# Altium footprint library Dr_lib .PcbLib: 38 footprints (part 1 of 3)
Each footprint in its own frame and in the unit in brackets; x right, y up, seen from the top. Pads: shape width x height; smd on the part's side, far side on the other; paste and mask are expansions set on the pad; w line width, h text height; cw(c..) or ccw(c..) is an arc to the next point about the centre after c.
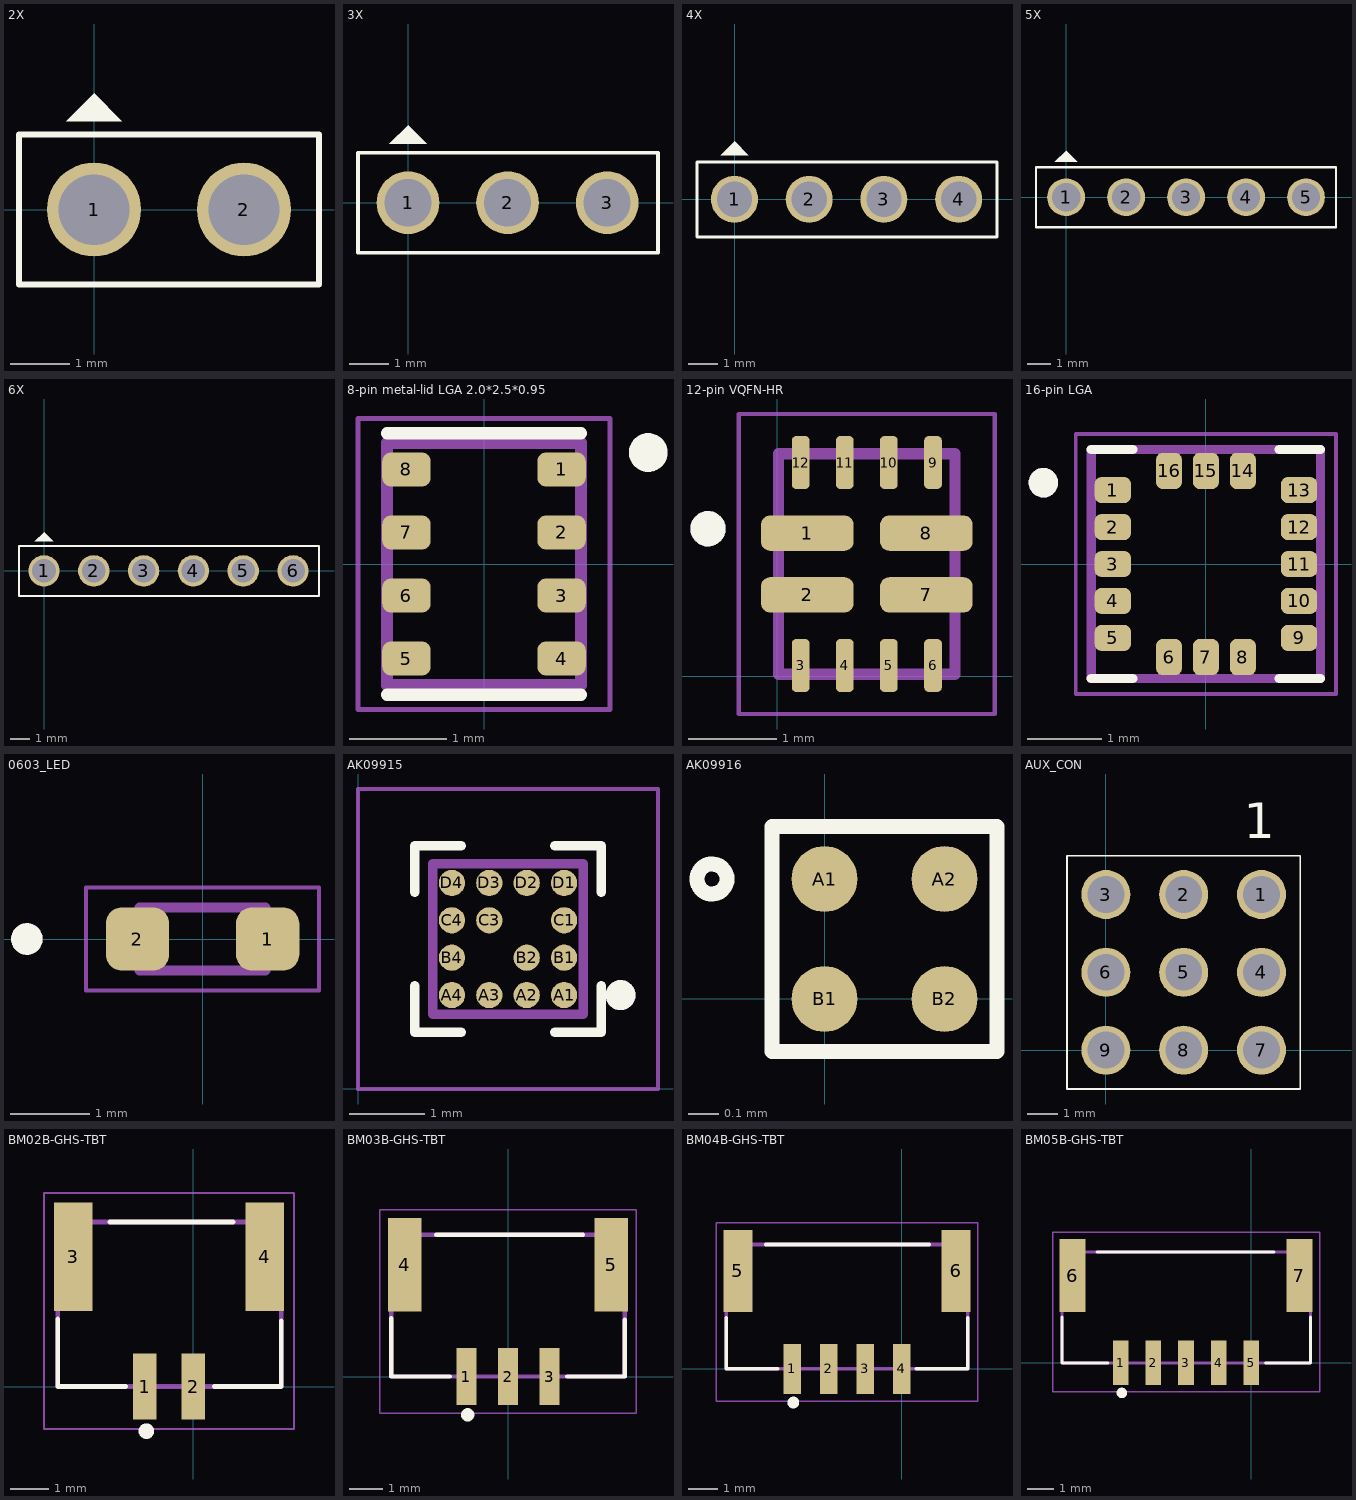
[diagram p0: the footprints below, top view; thin cyan lines are the x and y axes]

## 2X [mm]
pads (2):
  round 1.6 hole 1.2: 1(0,0) 2(2.55,0)
Top Overlay:
  region: 0,1.975 0.475,1.5 -0.475,1.5
  lines w0.1: -1.275,-1.275 -1.275,1.275 3.825,1.275 3.825,-1.275 -1.275,-1.275

## 3X [mm]
pads (3):
  round 1.6 hole 1.2: 1(0,0) 2(2.54,0) 3(5.08,0)
Top Overlay:
  region: 0,1.975 0.475,1.5 -0.475,1.5
  lines w0.1: -1.275,-1.275 6.375,-1.275 6.375,1.275 -1.275,1.275 -1.275,-1.275

## 4X [mm]
pads (4):
  round 1.6 hole 1.2: 1(0,0) 2(2.54,0) 3(5.08,0) 4(7.62,0)
Top Overlay:
  region: 0,1.975 0.475,1.5 -0.475,1.5
  lines w0.1: -1.275,-1.275 8.925,-1.275 8.925,1.275 -1.275,1.275 -1.275,-1.275

## 5X [mm]
pads (5):
  round 1.6 hole 1.2: 1(0,0) 2(2.54,0) 3(5.08,0) 4(7.62,0) 5(10.16,0)
Top Overlay:
  region: 0,1.975 0.475,1.5 -0.475,1.5
  lines w0.1: -1.275,-1.275 -1.275,1.275 11.43,1.275 11.43,-1.275 -1.275,-1.275

## 6X [mm]
pads (6):
  round 1.6 hole 1.2: 1(0,0) 2(2.54,0) 3(5.08,0) 4(7.62,0) 5(10.16,0) 6(12.7,0)
Top Overlay:
  region: 0,1.975 0.475,1.5 -0.475,1.5
  lines w0.1: -1.275,-1.275 14.025,-1.275 14.025,1.275 -1.275,1.275 -1.275,-1.275

## 8-pin metal-lid LGA 2.0*2.5*0.95 [mm]
pads (8):
  rrect50% 0.5x0.35 smd mask+0.05: 1(0.8,0.975) 2(0.8,0.325) 3(0.8,-0.325) 4(0.8,-0.975) 5(-0.8,-0.975) 6(-0.8,-0.325) 7(-0.8,0.325) 8(-0.8,0.975)
Top Overlay:
  circle w0.2: c1.695,1.15 r0.1
  lines w0.127: -1,-1.35 1,-1.35 ; -1,1.35 1,1.35
Mechanical 13:
  lines w0.127: -1,-1.25 1,-1.25 1,1.25 -1,1.25 -1,-1.25
Mechanical 15:
  lines w0.05: -1.3,-1.5 -1.3,1.5 1.3,1.5 1.3,-1.5 -1.3,-1.5
3D body "BMP280--3DModel-STEP-1.STEP": height 1, standoff 0, extent -1,-1.25 1,1.25

## 12-pin VQFN-HR [mm]
pads (12):
  rrect50% 1.05x0.4 smd mask+0: 1(0.341,1.62) 2(0.341,0.92) 7(1.691,0.92) 8(1.691,1.62)
  rrect50% 0.2x0.6 smd mask+0: 3(0.266,0.12) 4(0.766,0.12) 5(1.266,0.12) 6(1.766,0.12) 9(1.766,2.42) 10(1.266,2.42) 11(0.766,2.42) 12(0.266,2.42)
Top Overlay:
  circle w0.2: c-0.784,1.67 r0.1
Top Solder:
  region: 0.916,1.37 -0.234,1.37 -0.234,1.87 0.916,1.87
  region: 2.266,1.37 1.116,1.37 1.116,1.87 2.266,1.87
  region: 0.916,0.67 -0.234,0.67 -0.234,1.17 0.916,1.17
  region: 0.916,2.07 0.616,2.07 0.616,2.77 0.916,2.77
  region: 1.416,2.07 1.116,2.07 1.116,2.77 1.416,2.77
  region: 0.916,-0.23 0.616,-0.23 0.616,0.47 0.916,0.47
  region: 1.416,-0.23 1.116,-0.23 1.116,0.47 1.416,0.47
  region: 0.416,-0.23 0.116,-0.23 0.116,0.47 0.416,0.47
  region: 1.916,-0.23 1.616,-0.23 1.616,0.47 1.916,0.47
  region: 0.416,2.07 0.116,2.07 0.116,2.77 0.416,2.77
  region: 1.916,2.07 1.616,2.07 1.616,2.77 1.916,2.77
  region: 2.266,0.67 1.116,0.67 1.116,1.17 2.266,1.17
Mechanical 13:
  circle w0.2: c-0.784,1.67 r0.1
  lines w0.127: 0.016,0.02 0.016,2.52 2.016,2.52 2.016,0.02 0.016,0.02
Mechanical 15:
  lines w0.05: -0.434,-0.43 -0.434,2.97 2.466,2.97 2.466,-0.43 -0.434,-0.43
3D body "step_temp.STEP": height 1, standoff 0, extent 0.016,0.02 2.016,2.52

## 16-pin LGA [mm]
pads (16):
  rrect50% 0.49x0.35 smd mask+0.05: 1(-1.26,1) 2(-1.26,0.5) 3(-1.26,0) 4(-1.26,-0.5) 5(-1.26,-1) 9(1.26,-1) 10(1.26,-0.5) 11(1.26,0) 12(1.26,0.5) 13(1.26,1)
  rrect50% 0.35x0.49 smd mask+0.05: 6(-0.5,-1.26) 7(0,-1.26) 8(0.5,-1.26) 14(0.5,1.26) 15(0,1.26) 16(-0.5,1.26)
Top Overlay:
  circle w0.2: c-2.2,1.1 r0.1
  lines w0.127: -1.55,-1.55 -0.99,-1.55 ; -1.55,1.55 -0.99,1.55 ; 0.99,-1.55 1.55,-1.55 ; 0.99,1.55 1.55,1.55
Mechanical 13:
  circle w0.2: c-2.2,1.1 r0.1
  lines w0.127: -1.55,-1.55 1.55,-1.55 1.55,1.55 -1.55,1.55 -1.55,-1.55
Mechanical 15:
  lines w0.05: -1.76,-1.76 1.76,-1.76 1.76,1.76 -1.76,1.76 -1.76,-1.76
3D body "step_temp.STEP": height 0.8, standoff 0, extent -1.5,-1.5 1.5,1.5

## 0603_LED [mm]
pads (2):
  rrect50% 0.8x0.8 smd mask+0.05: 1(0.825,0) 2(-0.825,0)
Top Overlay:
  circle w0.2: c-2.225,0 r0.1
Mechanical 13:
  circle w0.2: c-2.225,0 r0.1
  lines w0.127: -0.8,-0.4 0.8,-0.4 0.8,0.4 -0.8,0.4 -0.8,-0.4
Mechanical 15:
  lines w0.05: -1.475,-0.65 -1.475,0.65 1.475,0.65 1.475,-0.65 -1.475,-0.65
3D body "step_temp.STEP": height 1.1, standoff 0, extent -0.8,-0.4 0.8,0.4

## AK09915 [mm]
pads (14):
  round 0.35 smd: A1(2.75,1.25) A2(2.25,1.25) A3(1.75,1.25) A4(1.25,1.25) B1(2.75,1.75) B2(2.25,1.75) B4(1.25,1.75) C1(2.75,2.25) C3(1.75,2.25) C4(1.25,2.25) D1(2.75,2.75) D2(2.25,2.75) D3(1.75,2.75) D4(1.25,2.75)
Top Overlay:
  circle w0.2: c3.505,1.25 r0.1
  lines w0.127: 0.755,1.378 0.755,0.755 1.377,0.755 ; 0.755,2.623 0.755,3.245 1.377,3.245 ; 2.622,0.755 3.245,0.755 3.245,1.378 ; 2.622,3.245 3.245,3.245 3.245,2.623
Mechanical 13:
  circle w0.2: c3.505,1.25 r0.1
  lines w0.127: 0.995,0.995 0.995,3.005 3.005,3.005 3.005,0.995 0.995,0.995
Mechanical 15:
  lines w0.05: -0.005,-0.005 -0.005,4.005 4.005,4.005 4.005,-0.005 -0.005,-0.005

## AK09916 [mm]
pads (4):
  round 0.22 smd mask+0.102: A1(0,0.4) A2(0.4,0.4) B1(0,0) B2(0.4,0)
Top Overlay:
  circle w0.05: c-0.375,0.4 r0.05
  lines w0.05: -0.175,-0.175 -0.175,0.575 0.575,0.575 0.575,-0.175 -0.175,-0.175
3D body "WLCSP4.step": height 0.45, standoff -0.02, extent -0.138,-0.138 0.537,0.537

## AUX_CON [mm]
pads (9):
  round 1.6 hole 1.2: 1(5.08,5.08) 2(2.54,5.08) 3(0,5.08) 4(5.08,2.54) 5(2.54,2.54) 6(0,2.54) 7(5.08,0) 8(2.54,0) 9(0,0)
Top Overlay:
  lines w0.05: -1.27,-1.27 -1.27,6.35 6.35,6.35 6.35,-1.27 -1.27,-1.27
  text "1" at 4.5,6.525 h2

## BM02B-GHS-TBT [mm]
pads (4):
  rect 0.6x1.7 smd: 1(-1.25,0) 2(0,0)
  rect 1x2.8 smd: 3(-3.1,3.35) 4(1.85,3.35)
Top Overlay:
  circle w0.2: c-1.21,-1.15 r0.1
  lines w0.127: -3.5,1.75 -3.5,0 -1.75,0 ; -2.15,4.25 1.025,4.25 ; 0.55,0 2.275,0 2.275,1.7
Mechanical 13:
  lines w0.127: -3.5,0 2.275,0 2.275,4.25 -3.5,4.25 -3.5,0
Mechanical 15:
  lines w0.05: -3.85,-1.1 2.6,-1.1 2.6,5 -3.85,5 -3.85,-1.1

## BM03B-GHS-TBT [mm]
pads (5):
  rect 0.6x1.7 smd: 1(-1.25,0) 2(0,0) 3(1.25,0)
  rect 1x2.8 smd: 4(-3.1,3.35) 5(3.1,3.35)
Top Overlay:
  circle w0.2: c-1.21,-1.15 r0.1
  lines w0.127: -3.5,1.75 -3.5,0 -1.75,0 ; -2.15,4.25 2.25,4.25 ; 1.778,0 3.5,0 3.5,1.7
Mechanical 13:
  lines w0.127: -3.5,0 3.5,0 3.5,4.25 -3.5,4.25 -3.5,0
Mechanical 15:
  lines w0.05: -3.85,-1.1 3.85,-1.1 3.85,5 -3.85,5 -3.85,-1.1

## BM04B-GHS-TBT [mm]
pads (6):
  rect 0.6x1.7 smd: 1(-3.75,0) 2(-2.5,0) 3(-1.25,0) 4(0,0)
  rect 1x2.8 smd: 5(-5.6,3.35) 6(1.85,3.35)
Top Overlay:
  circle w0.2: c-3.71,-1.15 r0.1
  lines w0.127: -6,1.75 -6,0 -4.25,0 ; -4.65,4.25 0.925,4.25 ; 0.5,0 2.25,0 2.25,1.75
Mechanical 13:
  lines w0.127: -6,0 2.25,0 2.25,4.25 -6,4.25 -6,0
Mechanical 15:
  lines w0.05: -6.35,-1.1 2.6,-1.1 2.6,5 -6.35,5 -6.35,-1.1

## BM05B-GHS-TBT [mm]
pads (7):
  rect 0.6x1.7 smd: 1(-5,0) 2(-3.75,0) 3(-2.5,0) 4(-1.25,0) 5(0,0)
  rect 1x2.8 smd: 6(-6.85,3.35) 7(1.85,3.35)
Top Overlay:
  circle w0.2: c-4.96,-1.15 r0.1
  lines w0.127: -7.25,1.75 -7.25,0 -5.5,0 ; -5.9,4.25 0.875,4.25 ; 0.55,0 2.275,0 2.275,1.75
Mechanical 13:
  lines w0.127: -7.25,0 2.275,0 2.275,4.25 -7.25,4.25 -7.25,0
Mechanical 15:
  lines w0.05: -7.6,-1.1 -7.6,5 2.625,5 2.625,-1.1 -7.6,-1.1